# Altium integrated library TI Amplifiers and Linear Operational Amplifier High Speed.IntLib: 1100 symbols (part 7 of 44)
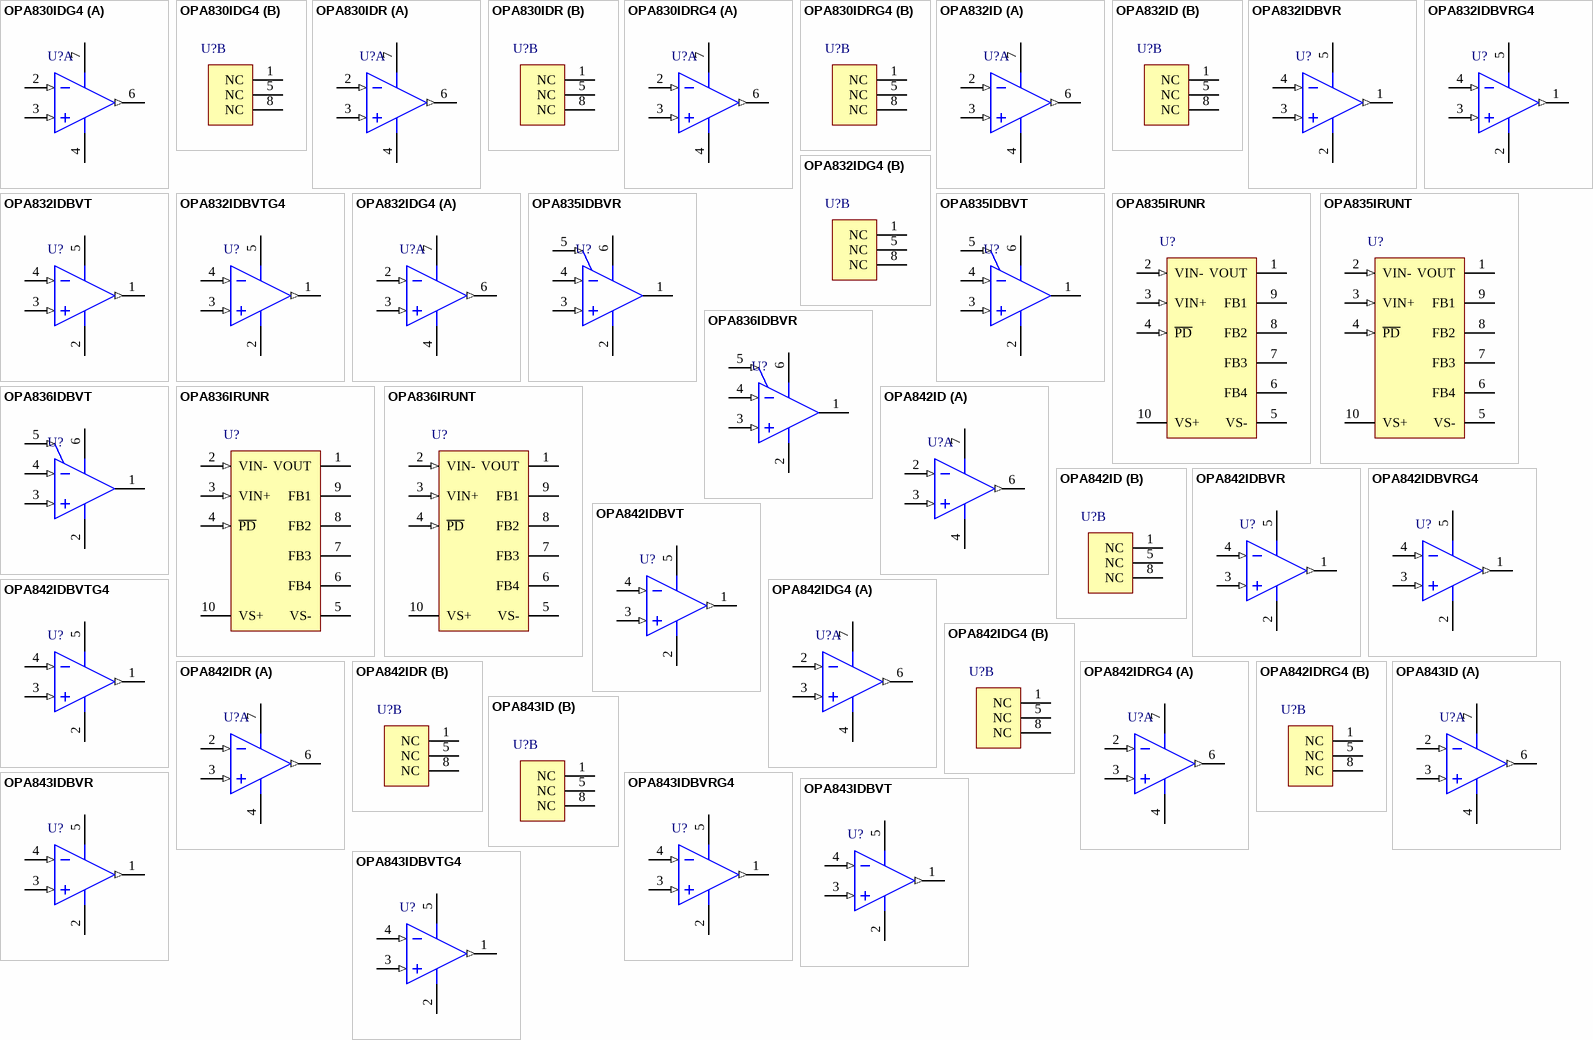
[diagram p57: symbols OPA830IDG4 to OPA843IDBVTG4]

## OPA832IDBVT
designator U?
Low-Power, Single-Supply, Fixed-Gain Video Buffer Amplifier, 2.8 to 11 V, -40 to 85 degC, 5-pin SOT23 (DBV5), Green (RoHS & no Sb/Br); Manufacturer: Texas Instruments; PartNumber: OPA832IDBVT; Acl, min stable gain(V/V): 1; BW @ Acl(MHz): 92; Iib(Max)(nA): 10; Io(Typ)(mA): 80; Rail-Rail: Out; Sub Family: High Output Current Amplifier (>=50mA), High Speed Amplifier (>=50MHz); Vio(Max)(mV): 5; Vn at Flatband(Typ)(nV/rtHz): 9.3; Vs(Max)(V): 11; Vs(Min)(V): 2.8; DatasheetVersion: SBOS266E; PackageVersion: 4073253-4/K, 03/2006; PackageReference: DBV5; PackageDescription: 5-Pin Plastic Small Outline, Body 1.6 x 2.9 mm, Pitch 0.95 mm; Supplier 1: Digi-Key; Supplier Part Number 1: 296-17326-2-ND; Supplier 2: Digi-Key; Supplier Part Number 2: 296-17326-1-ND; Supplier 3: Digi-Key; Supplier Part Number 3: 296-17326-6-ND; Supplier 4: Newark; Supplier Part Number 4: 43J9662; Supplier 5: Mouser; Supplier Part Number 5: 595-OPA832IDBVT; Eco-Plan: Green (RoHS & no Sb/Br); Number of Channels: 1; Mounting Technology: Surface Mount; Code_JEDEC: MO-178; ComponentLink1Description: Manufacturer URL; ComponentLink1URL: http://www.ti.com/; ComponentLink2Description: Datasheet; ComponentLink2URL: http://www.ti.com/general/docs/lit/getliterature.tsp?genericPartNumber=OPA832&fileType=pdf; ComponentLink3Description: Package Specification; ComponentLink3URL: http://www.ti.com/litv/pdf/mpds018i
footprint TI-DBV5_N (SOT23, 5-Leads, Body 2.9x1.6mm, Pitch 0.95mm, IPC Medium Density)
footprint TI-DBV5_L (SOT23, 5-Leads, Body 2.9x1.6mm, Pitch 0.95mm, IPC High Density)
footprint TI-DBV5_M (SOT23, 5-Leads, Body 2.9x1.6mm, Pitch 0.95mm, IPC Low Density)
pins: 1 OUT (out), 2 VS- (power), 3 IN+ (in), 4 IN- (in), 5 VS+ (power)

## OPA832IDBVTG4
designator U?
Low-Power, Single-Supply, Fixed-Gain Video Buffer Amplifier, 2.8 to 11 V, -40 to 85 degC, 5-pin SOT23 (DBV5), Green (RoHS & no Sb/Br); Manufacturer: Texas Instruments; PartNumber: OPA832IDBVTG4; Acl, min stable gain(V/V): 1; BW @ Acl(MHz): 92; Iib(Max)(nA): 10; Io(Typ)(mA): 80; Rail-Rail: Out; Sub Family: High Output Current Amplifier (>=50mA), High Speed Amplifier (>=50MHz); Vio(Max)(mV): 5; Vn at Flatband(Typ)(nV/rtHz): 9.3; Vs(Max)(V): 11; Vs(Min)(V): 2.8; DatasheetVersion: SBOS266E; PackageVersion: 4073253-4/K, 03/2006; PackageReference: DBV5; PackageDescription: 5-Pin Plastic Small Outline, Body 1.6 x 2.9 mm, Pitch 0.95 mm; Supplier 1: Digi-Key; Supplier Part Number 1: OPA832IDBVTG4-ND; Supplier 2: Newark; Supplier Part Number 2: 24K4702; Supplier 3: Mouser; Supplier Part Number 3: 595-OPA832IDBVTG4; Eco-Plan: Green (RoHS & no Sb/Br); Number of Channels: 1; Mounting Technology: Surface Mount; Code_JEDEC: MO-178; ComponentLink1Description: Manufacturer URL; ComponentLink1URL: http://www.ti.com/; ComponentLink2Description: Datasheet; ComponentLink2URL: http://www.ti.com/general/docs/lit/getliterature.tsp?genericPartNumber=OPA832&fileType=pdf; ComponentLink3Description: Package Specification; ComponentLink3URL: http://www.ti.com/litv/pdf/mpds018i
footprint TI-DBV5_N (SOT23, 5-Leads, Body 2.9x1.6mm, Pitch 0.95mm, IPC Medium Density)
footprint TI-DBV5_L (SOT23, 5-Leads, Body 2.9x1.6mm, Pitch 0.95mm, IPC High Density)
footprint TI-DBV5_M (SOT23, 5-Leads, Body 2.9x1.6mm, Pitch 0.95mm, IPC Low Density)
pins: 1 OUT (out), 2 VS- (power), 3 IN+ (in), 4 IN- (in), 5 VS+ (power)

## OPA832IDG4
designator U?
Low-Power, Single-Supply, Fixed-Gain Video Buffer Amplifier, 2.8 to 11 V, -40 to 85 degC, 8-pin SOIC (D8), Green (RoHS & no Sb/Br); Manufacturer: Texas Instruments; PartNumber: OPA832IDG4; 2nd Harmonic(dBc): 66; 3rd Harmonic(dBc): 73; Acl, min stable gain(V/V): 1; BW @ Acl(MHz): 92; Diff Gain(%): 0.10; Diff Phase(deg): 0.16; Iib(Max)(nA): 13000; Io(Typ)(mA): 80; Settling Time (0.1%)(Typ)(ns): 45; Slew Rate(Typ)(V/us): 350; Sub Family: High Output Current Amplifier (>=50mA), High Speed Amplifier (>=50MHz); Vio(Max)(mV): 8.5; Vn at Flatband(Typ)(nV/rtHz): 9.3; Vs(Max)(V): 11; Vs(Min)(V): 2.8; DatasheetVersion: SBOS266E; PackageVersion: 4040047-3/M, 06/2011; PackageReference: D8; PackageDescription: 8-Pin Plastic Small Outline, Body 4.9 x 3.9 mm, Pitch 1.27 mm; Supplier 1: Digi-Key; Supplier Part Number 1: OPA832IDG4-ND; Supplier 2: Newark; Supplier Part Number 2: 06M7545; Supplier 3: Mouser; Supplier Part Number 3: 595-OPA832IDG4; Eco-Plan: Green (RoHS & no Sb/Br); Number of Channels: 1; Mounting Technology: Surface Mount; Code_JEDEC: MS-012; ComponentLink1Description: Manufacturer URL; ComponentLink1URL: http://www.ti.com/; ComponentLink2Description: Datasheet; ComponentLink2URL: http://www.ti.com/general/docs/lit/getliterature.tsp?genericPartNumber=OPA832&fileType=pdf; ComponentLink3Description: Package Specification; ComponentLink3URL: http://www.ti.com/litv/pdf/msoi002j
footprint TI-D8_N (SOIC, 8-Leads, Body 4.9x3.9mm, Pitch 1.27mm, IPC Medium Density)
footprint TI-D8_L (SOIC, 8-Leads, Body 4.9x3.9mm, Pitch 1.27mm, IPC High Density)
footprint TI-D8_M (SOIC, 8-Leads, Body 4.9x3.9mm, Pitch 1.27mm, IPC Low Density)
part A pins: 2 IN- (in), 3 IN+ (in), 4 VS- (power), 6 OUT (out), 7 VS+ (power)
part B pins: 1 NC, 5 NC, 8 NC

## OPA835IDBVR
designator U?
Ultra Low Power, Rail-to-Rail Out, Negative Rail In, VFB Amplifier, 2.5 to 5.5 V, -40 to 125 degC, 6-pin SOT23 (DBV6), Green (RoHS & no Sb/Br); Manufacturer: Texas Instruments; PartNumber: OPA835IDBVR; 2nd Harmonic(dBc): 70; 3rd Harmonic(dBc): 73; @ MHz: 1; BW @ Acl(MHz): 56; Iib(Max)(nA): 400; Io(Typ)(mA): 40; Iq per channel(Max)(mA): 0.25; Settling Time (0.1%)(Typ)(ns): 55; Slew Rate(Typ)(V/us): 160; Sub Family: Audio Operational Amplifier, High Speed Amplifier (>=50MHz), Low Noise Amp (<=10nV/rtHz), Low Offset Voltage Amplifier (<=500uV), Low Power Amp (<=500uA), Low Supply Voltage Amplifier (<=2.7V); Vio(Max)(mV): 0.5; Vn at Flatband(Typ)(nV/rtHz): 9.3; Vs(Max)(V): 5.5; Vs(Min)(V): 2.5; DatasheetVersion: SLOS713D; PackageVersion: 4073253-5/K, 03/2006; PackageReference: DBV6; PackageDescription: 6-Pin Plastic Small Outline, Body 1.6 x 2.9 mm, Pitch 0.95 mm; Supplier 1: Digi-Key; Supplier Part Number 1: OPA835IDBVR-ND; Supplier 2: Newark; Supplier Part Number 2: 48T4384; Supplier 3: Mouser; Supplier Part Number 3: 595-OPA835IDBVR; Acl, min stable gain(V/V): 1; Eco-Plan: Green (RoHS & no Sb/Br); Number of Channels: 1; Mounting Technology: Surface Mount; Code_JEDEC: MO-178; ComponentLink1Description: Manufacturer URL; ComponentLink1URL: http://www.ti.com/; ComponentLink2Description: Datasheet; ComponentLink2URL: http://www.ti.com/general/docs/lit/getliterature.tsp?genericPartNumber=OPA835&fileType=pdf; ComponentLink3Description: Package Specification; ComponentLink3URL: http://www.ti.com/litv/pdf/mpds026h
footprint TI-DBV6_N (SOT23, 6-Leads, Body 2.9x1.6mm, Pitch 0.95mm, IPC Medium Density)
footprint TI-DBV6_L (SOT23, 6-Leads, Body 2.9x1.6mm, Pitch 0.95mm, IPC High Density)
footprint TI-DBV6_M (SOT23, 6-Leads, Body 2.9x1.6mm, Pitch 0.95mm, IPC Low Density)
pins: 1 VOUT (hiz) "Amplifier output", 2 VS- (power) "Negative power supply input", 3 VIN+ (in) "Amplifier non-inverting input", 4 VIN- (in) "Amplifier inverting input", 5 ~{PD} (in) "Amplifier Power Down, low = low power mode, high = normal operation (PIN MUST BE DRIVEN)", 6 VS+ (power) "Positive power supply input"

## OPA835IDBVT
designator U?
Ultra Low Power, Rail-to-Rail Out, Negative Rail In, VFB Amplifier, 2.5 to 5.5 V, -40 to 125 degC, 6-pin SOT23 (DBV6), Green (RoHS & no Sb/Br); Manufacturer: Texas Instruments; PartNumber: OPA835IDBVT; 2nd Harmonic(dBc): 70; 3rd Harmonic(dBc): 73; @ MHz: 1; BW @ Acl(MHz): 56; Iib(Max)(nA): 400; Io(Typ)(mA): 40; Iq per channel(Max)(mA): 0.25; Settling Time (0.1%)(Typ)(ns): 55; Slew Rate(Typ)(V/us): 160; Sub Family: Audio Operational Amplifier, High Speed Amplifier (>=50MHz), Low Noise Amp (<=10nV/rtHz), Low Offset Voltage Amplifier (<=500uV), Low Power Amp (<=500uA), Low Supply Voltage Amplifier (<=2.7V); Vio(Max)(mV): 0.5; Vn at Flatband(Typ)(nV/rtHz): 9.3; Vs(Max)(V): 5.5; Vs(Min)(V): 2.5; DatasheetVersion: SLOS713D; PackageVersion: 4073253-5/K, 03/2006; PackageReference: DBV6; PackageDescription: 6-Pin Plastic Small Outline, Body 1.6 x 2.9 mm, Pitch 0.95 mm; Supplier 1: Digi-Key; Supplier Part Number 1: 296-28770-2-ND; Supplier 2: Digi-Key; Supplier Part Number 2: 296-28770-1-ND; Supplier 3: Digi-Key; Supplier Part Number 3: 296-28770-6-ND; Supplier 4: Farnell; Supplier Part Number 4: 1903635; Supplier 5: Newark; Supplier Part Number 5: 48T0415; Supplier 6: Newark; Supplier Part Number 6: 51T4346; Supplier 7: Mouser; Supplier Part Number 7: 595-OPA835IDBVT; Acl, min stable gain(V/V): 1; Eco-Plan: Green (RoHS & no Sb/Br); Number of Channels: 1; Mounting Technology: Surface Mount; Code_JEDEC: MO-178; ComponentLink1Description: Manufacturer URL; ComponentLink1URL: http://www.ti.com/; ComponentLink2Description: Datasheet; ComponentLink2URL: http://www.ti.com/general/docs/lit/getliterature.tsp?genericPartNumber=OPA835&fileType=pdf; ComponentLink3Description: Package Specification; ComponentLink3URL: http://www.ti.com/litv/pdf/mpds026h
footprint TI-DBV6_N (SOT23, 6-Leads, Body 2.9x1.6mm, Pitch 0.95mm, IPC Medium Density)
footprint TI-DBV6_L (SOT23, 6-Leads, Body 2.9x1.6mm, Pitch 0.95mm, IPC High Density)
footprint TI-DBV6_M (SOT23, 6-Leads, Body 2.9x1.6mm, Pitch 0.95mm, IPC Low Density)
pins: 1 VOUT (hiz) "Amplifier output", 2 VS- (power) "Negative power supply input", 3 VIN+ (in) "Amplifier non-inverting input", 4 VIN- (in) "Amplifier inverting input", 5 ~{PD} (in) "Amplifier Power Down, low = low power mode, high = normal operation (PIN MUST BE DRIVEN)", 6 VS+ (power) "Positive power supply input"

## OPA835IRUNR
designator U?
Ultra Low Power, Rail-to-Rail Out, Negative Rail In, VFB Amplifier, 2.5 to 5.5 V, -40 to 125 degC, 10-pin QFN (RUN10), Green (RoHS & no Sb/Br); Manufacturer: Texas Instruments; PartNumber: OPA835IRUNR; 2nd Harmonic(dBc): 70; 3rd Harmonic(dBc): 73; @ MHz: 1; BW @ Acl(MHz): 56; Iib(Max)(nA): 400; Io(Typ)(mA): 40; Iq per channel(Max)(mA): 0.25; Settling Time (0.1%)(Typ)(ns): 55; Slew Rate(Typ)(V/us): 160; Sub Family: Audio Operational Amplifier, High Speed Amplifier (>=50MHz), Low Noise Amp (<=10nV/rtHz), Low Offset Voltage Amplifier (<=500uV), Low Power Amp (<=500uA), Low Supply Voltage Amplifier (<=2.7V); Vio(Max)(mV): 0.5; Vn at Flatband(Typ)(nV/rtHz): 9.3; Vs(Max)(V): 5.5; Vs(Min)(V): 2.5; DatasheetVersion: SLOS713D; PackageVersion: 4209107/B, 11/2010; PackageReference: RUN10; PackageDescription: 10-Pin Plastic Quad Flatpack No-Lead, Body 2 x 2 mm, Pitch 0.5 mm; Supplier 1: Digi-Key; Supplier Part Number 1: 296-29814-2-ND; Supplier 2: Digi-Key; Supplier Part Number 2: 296-29814-1-ND; Supplier 3: Digi-Key; Supplier Part Number 3: 296-29814-6-ND; Supplier 4: Mouser; Supplier Part Number 4: 595-OPA835IRUNR; Acl, min stable gain(V/V): 1; Eco-Plan: Green (RoHS & no Sb/Br); Number of Channels: 1; Mounting Technology: Surface Mount; ComponentLink1Description: Manufacturer URL; ComponentLink1URL: http://www.ti.com/; ComponentLink2Description: Datasheet; ComponentLink2URL: http://www.ti.com/general/docs/lit/getliterature.tsp?genericPartNumber=OPA835&fileType=pdf; ComponentLink3Description: Package Specification; ComponentLink3URL: http://www.ti.com/lit/ml/mpqf225a/mpqf225a.pdf
footprint TI-RUN10_V (QFN, 10-Leads, Body 2x2mm, Pitch 0.5mm, TI Recommended)
pins: 1 VOUT (hiz), 2 VIN- (in), 3 VIN+ (in), 4 ~{PD} (in), 5 VS- (power), 6 FB4, 7 FB3, 8 FB2, 9 FB1, 10 VS+ (power)

## OPA835IRUNT
designator U?
Ultra Low Power, Rail-to-Rail Out, Negative Rail In, VFB Amplifier, 2.5 to 5.5 V, -40 to 125 degC, 10-pin QFN (RUN10), Green (RoHS & no Sb/Br); Manufacturer: Texas Instruments; PartNumber: OPA835IRUNT; 2nd Harmonic(dBc): 70; 3rd Harmonic(dBc): 73; BW @ Acl(MHz): 56; Iib(Max)(nA): 400; Io(Typ)(mA): 40; Iq per channel(Max)(mA): 0.365; Number of Channels: 1; Settling Time (0.1%)(Typ)(ns): 55; Slew Rate(Typ)(V/us): 160; Sub Family: Audio Operational Amplifier, High Speed Amplifier (>=50MHz), Low Noise Amp (<=10nV/rtHz), Low Offset Voltage Amplifier (<=500uV), Low Power Amp (<=500uA), Low Supply Voltage Amplifier (<=2.7V); THD (Fc is 1 MHz)(Typ)(dB): -130; Vio(Max)(mV): 0.5; Vn at Flatband(Typ)(nV/rtHz): 9.3; Vs(Max)(V): 5.5; Vs(Min)(V): 2.5; DatasheetVersion: SLOS713D; PackageVersion: 4209107/B, 11/2010; PackageReference: RUN10; PackageDescription: 10-Pin Plastic Quad Flatpack No-Lead, Body 2 x 2 mm, Pitch 0.5 mm; Supplier 1: Digi-Key; Supplier Part Number 1: 296-32198-2-ND; Supplier 2: Digi-Key; Supplier Part Number 2: 296-32198-1-ND; Supplier 3: Digi-Key; Supplier Part Number 3: 296-32198-6-ND; Supplier 4: Mouser; Supplier Part Number 4: 595-OPA835IRUNT; Eco-Plan: Green (RoHS & no Sb/Br); Mounting Technology: Surface Mount; ComponentLink1Description: Manufacturer URL; ComponentLink1URL: http://www.ti.com/; ComponentLink2Description: Datasheet; ComponentLink2URL: http://www.ti.com/general/docs/lit/getliterature.tsp?genericPartNumber=OPA835&fileType=pdf; ComponentLink3Description: Package Specification; ComponentLink3URL: http://www.ti.com/lit/ml/mpqf225a/mpqf225a.pdf
footprint TI-RUN10_V (QFN, 10-Leads, Body 2x2mm, Pitch 0.5mm, TI Recommended)
pins: 1 VOUT (hiz), 2 VIN- (in), 3 VIN+ (in), 4 ~{PD} (in), 5 VS- (power), 6 FB4, 7 FB3, 8 FB2, 9 FB1, 10 VS+ (power)

## OPA836IDBVR
designator U?
Very Low Power, Rail to Rail Out, Negative Rail In, VFB Operational Amplifier, 2.5 to 5.5 V, -40 to 125 degC, 6-pin SOT23 (DBV6), Green (RoHS & no Sb/Br); Manufacturer: Texas Instruments; PartNumber: OPA836IDBVR; 2nd Harmonic(dBc): 85; 3rd Harmonic(dBc): 105; @ MHz: 1; BW @ Acl(MHz): 205; Iib(Max)(nA): 1000; Io(Typ)(mA): 50; Settling Time (0.1%)(Typ)(ns): 30; Slew Rate(Typ)(V/us): 560; Sub Family: Audio Operational Amplifier, High Output Current Amplifier (>=50mA), High Speed Amplifier (>=50MHz), Low Noise Amp (<=10nV/rtHz), Low Offset Voltage Amplifier (<=500uV), Low Supply Voltage Amplifier (<=2.7V); Vio(Max)(mV): 0.4; Vn at Flatband(Typ)(nV/rtHz): 4.6; Vs(Max)(V): 5.5; Vs(Min)(V): 2.5; DatasheetVersion: SLOS712D; PackageVersion: 4073253-5/K, 03/2006; PackageReference: DBV6; PackageDescription: 6-Pin Plastic Small Outline, Body 1.6 x 2.9 mm, Pitch 0.95 mm; Supplier 1: Digi-Key; Supplier Part Number 1: OPA836IDBVR-ND; Supplier 2: Mouser; Supplier Part Number 2: 595-OPA836IDBVR; Acl, min stable gain(V/V): 1; Eco-Plan: Green (RoHS & no Sb/Br); Iq per channel(Max)(mA): 1; Number of Channels: 1; Mounting Technology: Surface Mount; Code_JEDEC: MO-178; ComponentLink1Description: Manufacturer URL; ComponentLink1URL: http://www.ti.com/; ComponentLink2Description: Datasheet; ComponentLink2URL: http://www.ti.com/general/docs/lit/getliterature.tsp?genericPartNumber=OPA836&fileType=pdf; ComponentLink3Description: Package Specification; ComponentLink3URL: http://www.ti.com/litv/pdf/mpds026h
footprint TI-DBV6_N (SOT23, 6-Leads, Body 2.9x1.6mm, Pitch 0.95mm, IPC Medium Density)
footprint TI-DBV6_L (SOT23, 6-Leads, Body 2.9x1.6mm, Pitch 0.95mm, IPC High Density)
footprint TI-DBV6_M (SOT23, 6-Leads, Body 2.9x1.6mm, Pitch 0.95mm, IPC Low Density)
pins: 1 VOUT (hiz) "Amplifier output", 2 VS- (power) "Negative power supply input", 3 VIN+ (in) "Amplifier non-inverting input", 4 VIN- (in) "Amplifier inverting input", 5 ~{PD} (in) "Amplifier Power Down, low = low power mode, high = normal operation (PIN MUST BE DRIVEN)", 6 VS+ (power) "Positive power supply input"

## OPA836IDBVT
designator U?
Very Low Power, Rail to Rail Out, Negative Rail In, VFB Operational Amplifier, 2.5 to 5.5 V, -40 to 125 degC, 6-pin SOT23 (DBV6), Green (RoHS & no Sb/Br); Manufacturer: Texas Instruments; PartNumber: OPA836IDBVT; 2nd Harmonic(dBc): 85; 3rd Harmonic(dBc): 105; @ MHz: 1; BW @ Acl(MHz): 205; Iib(Max)(nA): 1000; Io(Typ)(mA): 50; Settling Time (0.1%)(Typ)(ns): 30; Slew Rate(Typ)(V/us): 560; Sub Family: Audio Operational Amplifier, High Output Current Amplifier (>=50mA), High Speed Amplifier (>=50MHz), Low Noise Amp (<=10nV/rtHz), Low Offset Voltage Amplifier (<=500uV), Low Supply Voltage Amplifier (<=2.7V); Vio(Max)(mV): 0.4; Vn at Flatband(Typ)(nV/rtHz): 4.6; Vs(Max)(V): 5.5; Vs(Min)(V): 2.5; DatasheetVersion: SLOS712D; PackageVersion: 4073253-5/K, 03/2006; PackageReference: DBV6; PackageDescription: 6-Pin Plastic Small Outline, Body 1.6 x 2.9 mm, Pitch 0.95 mm; Supplier 1: Digi-Key; Supplier Part Number 1: 296-28761-2-ND; Supplier 2: Digi-Key; Supplier Part Number 2: 296-28761-1-ND; Supplier 3: Digi-Key; Supplier Part Number 3: 296-28761-6-ND; Supplier 4: Farnell; Supplier Part Number 4: 1903636; Supplier 5: Newark; Supplier Part Number 5: 47T4463; Supplier 6: Newark; Supplier Part Number 6: 55T3611; Supplier 7: Mouser; Supplier Part Number 7: 595-OPA836IDBVT; Acl, min stable gain(V/V): 1; Eco-Plan: Green (RoHS & no Sb/Br); Iq per channel(Max)(mA): 1; Number of Channels: 1; Mounting Technology: Surface Mount; Code_JEDEC: MO-178; ComponentLink1Description: Manufacturer URL; ComponentLink1URL: http://www.ti.com/; ComponentLink2Description: Datasheet; ComponentLink2URL: http://www.ti.com/general/docs/lit/getliterature.tsp?genericPartNumber=OPA836&fileType=pdf; ComponentLink3Description: Package Specification; ComponentLink3URL: http://www.ti.com/litv/pdf/mpds026h
footprint TI-DBV6_N (SOT23, 6-Leads, Body 2.9x1.6mm, Pitch 0.95mm, IPC Medium Density)
footprint TI-DBV6_L (SOT23, 6-Leads, Body 2.9x1.6mm, Pitch 0.95mm, IPC High Density)
footprint TI-DBV6_M (SOT23, 6-Leads, Body 2.9x1.6mm, Pitch 0.95mm, IPC Low Density)
pins: 1 VOUT (hiz) "Amplifier output", 2 VS- (power) "Negative power supply input", 3 VIN+ (in) "Amplifier non-inverting input", 4 VIN- (in) "Amplifier inverting input", 5 ~{PD} (in) "Amplifier Power Down, low = low power mode, high = normal operation (PIN MUST BE DRIVEN)", 6 VS+ (power) "Positive power supply input"

## OPA836IRUNR
designator U?
Very Low Power, Rail to Rail Out, Negative Rail In, VFB Operational Amplifier, 2.5 to 5.5 V, -40 to 125 degC, 10-pin QFN (RUN10), Green (RoHS & no Sb/Br); Manufacturer: Texas Instruments; PartNumber: OPA836IRUNR; 2nd Harmonic(dBc): 85; 3rd Harmonic(dBc): 105; @ MHz: 1; BW @ Acl(MHz): 205; Iib(Max)(nA): 1000; Io(Typ)(mA): 50; Settling Time (0.1%)(Typ)(ns): 30; Slew Rate(Typ)(V/us): 560; Sub Family: Audio Operational Amplifier, High Output Current Amplifier (>=50mA), High Speed Amplifier (>=50MHz), Low Noise Amp (<=10nV/rtHz), Low Offset Voltage Amplifier (<=500uV), Low Supply Voltage Amplifier (<=2.7V); Vio(Max)(mV): 0.4; Vn at Flatband(Typ)(nV/rtHz): 4.6; Vs(Max)(V): 5.5; Vs(Min)(V): 2.5; DatasheetVersion: SLOS712D; PackageVersion: 4209107/B, 11/2010; PackageReference: RUN10; PackageDescription: 10-Pin Plastic Quad Flatpack No-Lead, Body 2 x 2 mm, Pitch 0.5 mm; Supplier 1: Digi-Key; Supplier Part Number 1: 296-29815-2-ND; Supplier 2: Digi-Key; Supplier Part Number 2: 296-29815-1-ND; Supplier 3: Digi-Key; Supplier Part Number 3: 296-29815-6-ND; Supplier 4: Mouser; Supplier Part Number 4: 595-OPA836IRUNR; Acl, min stable gain(V/V): 1; Eco-Plan: Green (RoHS & no Sb/Br); Iq per channel(Max)(mA): 1; Number of Channels: 1; Mounting Technology: Surface Mount; ComponentLink1Description: Manufacturer URL; ComponentLink1URL: http://www.ti.com/; ComponentLink2Description: Datasheet; ComponentLink2URL: http://www.ti.com/general/docs/lit/getliterature.tsp?genericPartNumber=OPA836&fileType=pdf; ComponentLink3Description: Package Specification; ComponentLink3URL: http://www.ti.com/lit/ml/mpqf225a/mpqf225a.pdf
footprint TI-RUN10_V (QFN, 10-Leads, Body 2x2mm, Pitch 0.5mm, TI Recommended)
pins: 1 VOUT (hiz), 2 VIN- (in), 3 VIN+ (in), 4 ~{PD} (in), 5 VS- (power), 6 FB4, 7 FB3, 8 FB2, 9 FB1, 10 VS+ (power)

## OPA836IRUNT
designator U?
Very Low Power, Rail to Rail Out, Negative Rail In, VFB Operational Amplifier, 2.5 to 5.5 V, -40 to 125 degC, 10-pin QFN (RUN10), Green (RoHS & no Sb/Br); Manufacturer: Texas Instruments; PartNumber: OPA836IRUNT; 2nd Harmonic(dBc): 85; 3rd Harmonic(dBc): 105; @ MHz: 1; BW @ Acl(MHz): 205; Iib(Max)(nA): 1850; Io(Typ)(mA): 50; Settling Time (0.1%)(Typ)(ns): 30; Slew Rate(Typ)(V/us): 560; Sub Family: Audio Operational Amplifier, High Output Current Amplifier (>=50mA), High Speed Amplifier (>=50MHz), Low Noise Amp (<=10nV/rtHz), Low Offset Voltage Amplifier (<=500uV), Low Supply Voltage Amplifier (<=2.7V); THD (Fc is 1 MHz)(Typ)(dB): -130; Vio(Max)(mV): 0.4; Vn at Flatband(Typ)(nV/rtHz): 4.6; Vs(Max)(V): 5.5; Vs(Min)(V): 2.5; DatasheetVersion: SLOS712D; PackageVersion: 4209107/B, 11/2010; PackageReference: RUN10; PackageDescription: 10-Pin Plastic Quad Flatpack No-Lead, Body 2 x 2 mm, Pitch 0.5 mm; Supplier 1: Digi-Key; Supplier Part Number 1: 296-32199-2-ND; Supplier 2: Digi-Key; Supplier Part Number 2: 296-32199-1-ND; Supplier 3: Digi-Key; Supplier Part Number 3: 296-32199-6-ND; Supplier 4: Mouser; Supplier Part Number 4: 595-OPA836IRUNT; Acl, min stable gain(V/V): 1; Eco-Plan: Green (RoHS & no Sb/Br); Iq per channel(Max)(mA): 1; Number of Channels: 1; Rail-Rail: Out; Mounting Technology: Surface Mount; ComponentLink1Description: Manufacturer URL; ComponentLink1URL: http://www.ti.com/; ComponentLink2Description: Datasheet; ComponentLink2URL: http://www.ti.com/general/docs/lit/getliterature.tsp?genericPartNumber=OPA836&fileType=pdf; ComponentLink3Description: Package Specification; ComponentLink3URL: http://www.ti.com/lit/ml/mpqf225a/mpqf225a.pdf
footprint TI-RUN10_V (QFN, 10-Leads, Body 2x2mm, Pitch 0.5mm, TI Recommended)
pins: 1 VOUT (hiz), 2 VIN- (in), 3 VIN+ (in), 4 ~{PD} (in), 5 VS- (power), 6 FB4, 7 FB3, 8 FB2, 9 FB1, 10 VS+ (power)

## OPA842ID
designator U?
Wideband, Low Distortion, Unity Gain Stable, Voltage Feedback Operational Amplifier, 7 to 12 V, -40 to 85 degC, 8-pin SOIC (D8), Green (RoHS & no Sb/Br); Manufacturer: Texas Instruments; PartNumber: OPA842ID; 2nd Harmonic(dBc): 94; 3rd Harmonic(dBc): 93; @ MHz: 5; Acl, min stable gain(V/V): 1; BW @ Acl(MHz): 400; Diff Gain(%): 0.003; Diff Phase(deg): 0.008; Iib(Max)(nA): 37000; Io(Typ)(mA): 100; Iq per channel(Max)(mA): 22.5; Settling Time (0.1%)(Typ)(ns): 15; Sub Family: High Output Current Amplifier (>=50mA), High Speed Amplifier (>=50MHz); THD (Fc is 1 MHz)(Typ)(dB): -100; Vio(Max)(mV): 1.2; Vn at Flatband(Typ)(nV/rtHz): 2.7; Vs(Max)(V): 12; Vs(Min)(V): 7; DatasheetVersion: SBOS267D; PackageVersion: 4040047-3/M, 06/2011; PackageReference: D8; PackageDescription: 8-Pin Plastic Small Outline, Body 4.9 x 3.9 mm, Pitch 1.27 mm; Supplier 1: Digi-Key; Supplier Part Number 1: 296-14175-5-ND; Supplier 2: Farnell; Supplier Part Number 2: 1212330; Supplier 3: Newark; Supplier Part Number 3: 01M8439; Supplier 4: Newark; Supplier Part Number 4: 21H3994; Supplier 5: Mouser; Supplier Part Number 5: 595-OPA842ID; Eco-Plan: Green (RoHS & no Sb/Br); Number of Channels: 1; Slew Rate(Typ)(V/us): 400; Mounting Technology: Surface Mount; Code_JEDEC: MS-012; ComponentLink1Description: Manufacturer URL; ComponentLink1URL: http://www.ti.com/; ComponentLink2Description: Datasheet; ComponentLink2URL: http://www.ti.com/general/docs/lit/getliterature.tsp?genericPartNumber=OPA842&fileType=pdf; ComponentLink3Description: Package Specification; ComponentLink3URL: http://www.ti.com/litv/pdf/msoi002j
footprint TI-D8_N (SOIC, 8-Leads, Body 4.9x3.9mm, Pitch 1.27mm, IPC Medium Density)
footprint TI-D8_L (SOIC, 8-Leads, Body 4.9x3.9mm, Pitch 1.27mm, IPC High Density)
footprint TI-D8_M (SOIC, 8-Leads, Body 4.9x3.9mm, Pitch 1.27mm, IPC Low Density)
part A pins: 2 IN- (in), 3 IN+ (in), 4 VS- (power), 6 OUT (out), 7 VS+ (power)
part B pins: 1 NC, 5 NC, 8 NC

## OPA842IDBVR
designator U?
Wideband, Low Distortion, Unity Gain Stable, Voltage Feedback Operational Amplifier, 7 to 12 V, -40 to 85 degC, 5-pin SOT23 (DBV5), Green (RoHS & no Sb/Br); Manufacturer: Texas Instruments; PartNumber: OPA842IDBVR; 2nd Harmonic(dBc): 94; 3rd Harmonic(dBc): 93; @ MHz: 5; Acl, min stable gain(V/V): 1; BW @ Acl(MHz): 400; Diff Gain(%): 0.003; Diff Phase(deg): 0.008; Iib(Max)(nA): 37000; Io(Typ)(mA): 100; Iq per channel(Max)(mA): 22.5; Settling Time (0.1%)(Typ)(ns): 15; Sub Family: High Output Current Amplifier (>=50mA), High Speed Amplifier (>=50MHz); THD (Fc is 1 MHz)(Typ)(dB): -100; Vio(Max)(mV): 1.2; Vn at Flatband(Typ)(nV/rtHz): 2.7; Vs(Max)(V): 12; Vs(Min)(V): 7; DatasheetVersion: SBOS267D; PackageVersion: 4073253-4/K, 03/2006; PackageReference: DBV5; PackageDescription: 5-Pin Plastic Small Outline, Body 1.6 x 2.9 mm, Pitch 0.95 mm; Supplier 1: Digi-Key; Supplier Part Number 1: OPA842IDBVR-ND; Supplier 2: Mouser; Supplier Part Number 2: 595-OPA842IDBVR; Eco-Plan: Green (RoHS & no Sb/Br); Number of Channels: 1; Slew Rate(Typ)(V/us): 400; Mounting Technology: Surface Mount; Code_JEDEC: MO-178; ComponentLink1Description: Manufacturer URL; ComponentLink1URL: http://www.ti.com/; ComponentLink2Description: Datasheet; ComponentLink2URL: http://www.ti.com/general/docs/lit/getliterature.tsp?genericPartNumber=OPA842&fileType=pdf; ComponentLink3Description: Package Specification; ComponentLink3URL: http://www.ti.com/litv/pdf/mpds018i
footprint TI-DBV5_N (SOT23, 5-Leads, Body 2.9x1.6mm, Pitch 0.95mm, IPC Medium Density)
footprint TI-DBV5_L (SOT23, 5-Leads, Body 2.9x1.6mm, Pitch 0.95mm, IPC High Density)
footprint TI-DBV5_M (SOT23, 5-Leads, Body 2.9x1.6mm, Pitch 0.95mm, IPC Low Density)
pins: 1 OUT (out), 2 VS- (power), 3 IN+ (in), 4 IN- (in), 5 VS+ (power)

## OPA842IDBVRG4
designator U?
Wideband, Low Distortion, Unity Gain Stable, Voltage Feedback Operational Amplifier, 7 to 12 V, -40 to 85 degC, 5-pin SOT23 (DBV5), Green (RoHS & no Sb/Br); Manufacturer: Texas Instruments; PartNumber: OPA842IDBVRG4; 2nd Harmonic(dBc): 94; 3rd Harmonic(dBc): 93; @ MHz: 5; Acl, min stable gain(V/V): 1; BW @ Acl(MHz): 400; Diff Gain(%): 0.003; Diff Phase(deg): 0.008; Iib(Max)(nA): 37000; Io(Typ)(mA): 100; Iq per channel(Max)(mA): 22.5; Settling Time (0.1%)(Typ)(ns): 15; Sub Family: High Output Current Amplifier (>=50mA), High Speed Amplifier (>=50MHz); THD (Fc is 1 MHz)(Typ)(dB): -100; Vio(Max)(mV): 1.2; Vn at Flatband(Typ)(nV/rtHz): 2.7; Vs(Max)(V): 12; Vs(Min)(V): 7; DatasheetVersion: SBOS267D; PackageVersion: 4073253-4/K, 03/2006; PackageReference: DBV5; PackageDescription: 5-Pin Plastic Small Outline, Body 1.6 x 2.9 mm, Pitch 0.95 mm; Supplier 1: Digi-Key; Supplier Part Number 1: OPA842IDBVRG4-ND; Supplier 2: Mouser; Supplier Part Number 2: 595-OPA842IDBVRG4; Eco-Plan: Green (RoHS & no Sb/Br); Number of Channels: 1; Slew Rate(Typ)(V/us): 400; Mounting Technology: Surface Mount; Code_JEDEC: MO-178; ComponentLink1Description: Manufacturer URL; ComponentLink1URL: http://www.ti.com/; ComponentLink2Description: Datasheet; ComponentLink2URL: http://www.ti.com/general/docs/lit/getliterature.tsp?genericPartNumber=OPA842&fileType=pdf; ComponentLink3Description: Package Specification; ComponentLink3URL: http://www.ti.com/litv/pdf/mpds018i
footprint TI-DBV5_N (SOT23, 5-Leads, Body 2.9x1.6mm, Pitch 0.95mm, IPC Medium Density)
footprint TI-DBV5_L (SOT23, 5-Leads, Body 2.9x1.6mm, Pitch 0.95mm, IPC High Density)
footprint TI-DBV5_M (SOT23, 5-Leads, Body 2.9x1.6mm, Pitch 0.95mm, IPC Low Density)
pins: 1 OUT (out), 2 VS- (power), 3 IN+ (in), 4 IN- (in), 5 VS+ (power)

## OPA842IDBVT
designator U?
Wideband, Low Distortion, Unity Gain Stable, Voltage Feedback Operational Amplifier, 7 to 12 V, -40 to 85 degC, 5-pin SOT23 (DBV5), Green (RoHS & no Sb/Br); Manufacturer: Texas Instruments; PartNumber: OPA842IDBVT; 2nd Harmonic(dBc): 94; 3rd Harmonic(dBc): 93; @ MHz: 5; Acl, min stable gain(V/V): 1; BW @ Acl(MHz): 400; Diff Gain(%): 0.003; Diff Phase(deg): 0.008; Iib(Max)(nA): 37000; Io(Typ)(mA): 100; Iq per channel(Max)(mA): 22.5; Settling Time (0.1%)(Typ)(ns): 15; Sub Family: High Output Current Amplifier (>=50mA), High Speed Amplifier (>=50MHz); THD (Fc is 1 MHz)(Typ)(dB): -100; Vio(Max)(mV): 1.2; Vn at Flatband(Typ)(nV/rtHz): 2.7; Vs(Max)(V): 12; Vs(Min)(V): 7; DatasheetVersion: SBOS267D; PackageVersion: 4073253-4/K, 03/2006; PackageReference: DBV5; PackageDescription: 5-Pin Plastic Small Outline, Body 1.6 x 2.9 mm, Pitch 0.95 mm; Supplier 1: Digi-Key; Supplier Part Number 1: 296-14176-2-ND; Supplier 2: Digi-Key; Supplier Part Number 2: 296-14176-1-ND; Supplier 3: Digi-Key; Supplier Part Number 3: 296-14176-6-ND; Supplier 4: Farnell; Supplier Part Number 4: 8434298; Supplier 5: Newark; Supplier Part Number 5: 21H3996; Supplier 6: Mouser; Supplier Part Number 6: 595-OPA842IDBVT; Eco-Plan: Green (RoHS & no Sb/Br); Number of Channels: 1; Slew Rate(Typ)(V/us): 400; Mounting Technology: Surface Mount; Code_JEDEC: MO-178; ComponentLink1Description: Manufacturer URL; ComponentLink1URL: http://www.ti.com/; ComponentLink2Description: Datasheet; ComponentLink2URL: http://www.ti.com/general/docs/lit/getliterature.tsp?genericPartNumber=OPA842&fileType=pdf; ComponentLink3Description: Package Specification; ComponentLink3URL: http://www.ti.com/litv/pdf/mpds018i
footprint TI-DBV5_N (SOT23, 5-Leads, Body 2.9x1.6mm, Pitch 0.95mm, IPC Medium Density)
footprint TI-DBV5_L (SOT23, 5-Leads, Body 2.9x1.6mm, Pitch 0.95mm, IPC High Density)
footprint TI-DBV5_M (SOT23, 5-Leads, Body 2.9x1.6mm, Pitch 0.95mm, IPC Low Density)
pins: 1 OUT (out), 2 VS- (power), 3 IN+ (in), 4 IN- (in), 5 VS+ (power)

## OPA842IDBVTG4
designator U?
Wideband, Low Distortion, Unity Gain Stable, Voltage Feedback Operational Amplifier, 7 to 12 V, -40 to 85 degC, 5-pin SOT23 (DBV5), Green (RoHS & no Sb/Br); Manufacturer: Texas Instruments; PartNumber: OPA842IDBVTG4; 2nd Harmonic(dBc): 94; 3rd Harmonic(dBc): 93; @ MHz: 5; Acl, min stable gain(V/V): 1; BW @ Acl(MHz): 400; Diff Gain(%): 0.003; Diff Phase(deg): 0.008; Iib(Max)(nA): 37000; Io(Typ)(mA): 100; Iq per channel(Max)(mA): 22.5; Settling Time (0.1%)(Typ)(ns): 15; Sub Family: High Output Current Amplifier (>=50mA), High Speed Amplifier (>=50MHz); THD (Fc is 1 MHz)(Typ)(dB): -100; Vio(Max)(mV): 1.2; Vn at Flatband(Typ)(nV/rtHz): 2.7; Vs(Max)(V): 12; Vs(Min)(V): 7; DatasheetVersion: SBOS267D; PackageVersion: 4073253-4/K, 03/2006; PackageReference: DBV5; PackageDescription: 5-Pin Plastic Small Outline, Body 1.6 x 2.9 mm, Pitch 0.95 mm; Supplier 1: Digi-Key; Supplier Part Number 1: OPA842IDBVTG4-ND; Supplier 2: Mouser; Supplier Part Number 2: 595-OPA842IDBVTG4; Eco-Plan: Green (RoHS & no Sb/Br); Number of Channels: 1; Slew Rate(Typ)(V/us): 400; Mounting Technology: Surface Mount; Code_JEDEC: MO-178; ComponentLink1Description: Manufacturer URL; ComponentLink1URL: http://www.ti.com/; ComponentLink2Description: Datasheet; ComponentLink2URL: http://www.ti.com/general/docs/lit/getliterature.tsp?genericPartNumber=OPA842&fileType=pdf; ComponentLink3Description: Package Specification; ComponentLink3URL: http://www.ti.com/litv/pdf/mpds018i
footprint TI-DBV5_N (SOT23, 5-Leads, Body 2.9x1.6mm, Pitch 0.95mm, IPC Medium Density)
footprint TI-DBV5_L (SOT23, 5-Leads, Body 2.9x1.6mm, Pitch 0.95mm, IPC High Density)
footprint TI-DBV5_M (SOT23, 5-Leads, Body 2.9x1.6mm, Pitch 0.95mm, IPC Low Density)
pins: 1 OUT (out), 2 VS- (power), 3 IN+ (in), 4 IN- (in), 5 VS+ (power)

## OPA842IDG4
designator U?
Wideband, Low Distortion, Unity Gain Stable, Voltage Feedback Operational Amplifier, 7 to 12 V, -40 to 85 degC, 8-pin SOIC (D8), Green (RoHS & no Sb/Br); Manufacturer: Texas Instruments; PartNumber: OPA842IDG4; 2nd Harmonic(dBc): 94; 3rd Harmonic(dBc): 93; @ MHz: 5; Acl, min stable gain(V/V): 1; BW @ Acl(MHz): 400; Diff Gain(%): 0.003; Diff Phase(deg): 0.008; Iib(Max)(nA): 37000; Io(Typ)(mA): 100; Iq per channel(Max)(mA): 22.5; Settling Time (0.1%)(Typ)(ns): 15; Sub Family: High Output Current Amplifier (>=50mA), High Speed Amplifier (>=50MHz); THD (Fc is 1 MHz)(Typ)(dB): -100; Vio(Max)(mV): 1.2; Vn at Flatband(Typ)(nV/rtHz): 2.7; Vs(Max)(V): 12; Vs(Min)(V): 7; DatasheetVersion: SBOS267D; PackageVersion: 4040047-3/M, 06/2011; PackageReference: D8; PackageDescription: 8-Pin Plastic Small Outline, Body 4.9 x 3.9 mm, Pitch 1.27 mm; Supplier 1: Digi-Key; Supplier Part Number 1: OPA842IDG4-ND; Supplier 2: Mouser; Supplier Part Number 2: 595-OPA842IDG4; Eco-Plan: Green (RoHS & no Sb/Br); Number of Channels: 1; Slew Rate(Typ)(V/us): 400; Mounting Technology: Surface Mount; Code_JEDEC: MS-012; ComponentLink1Description: Manufacturer URL; ComponentLink1URL: http://www.ti.com/; ComponentLink2Description: Datasheet; ComponentLink2URL: http://www.ti.com/general/docs/lit/getliterature.tsp?genericPartNumber=OPA842&fileType=pdf; ComponentLink3Description: Package Specification; ComponentLink3URL: http://www.ti.com/litv/pdf/msoi002j
footprint TI-D8_N (SOIC, 8-Leads, Body 4.9x3.9mm, Pitch 1.27mm, IPC Medium Density)
footprint TI-D8_L (SOIC, 8-Leads, Body 4.9x3.9mm, Pitch 1.27mm, IPC High Density)
footprint TI-D8_M (SOIC, 8-Leads, Body 4.9x3.9mm, Pitch 1.27mm, IPC Low Density)
part A pins: 2 IN- (in), 3 IN+ (in), 4 VS- (power), 6 OUT (out), 7 VS+ (power)
part B pins: 1 NC, 5 NC, 8 NC

## OPA842IDR
designator U?
Wideband, Low Distortion, Unity Gain Stable, Voltage Feedback Operational Amplifier, 7 to 12 V, -40 to 85 degC, 8-pin SOIC (D8), Green (RoHS & no Sb/Br); Manufacturer: Texas Instruments; PartNumber: OPA842IDR; 2nd Harmonic(dBc): 94; 3rd Harmonic(dBc): 93; @ MHz: 5; Acl, min stable gain(V/V): 1; BW @ Acl(MHz): 400; Diff Gain(%): 0.003; Diff Phase(deg): 0.008; Iib(Max)(nA): 37000; Io(Typ)(mA): 100; Iq per channel(Max)(mA): 22.5; Settling Time (0.1%)(Typ)(ns): 15; Sub Family: High Output Current Amplifier (>=50mA), High Speed Amplifier (>=50MHz); THD (Fc is 1 MHz)(Typ)(dB): -100; Vio(Max)(mV): 1.2; Vn at Flatband(Typ)(nV/rtHz): 2.7; Vs(Max)(V): 12; Vs(Min)(V): 7; DatasheetVersion: SBOS267D; PackageVersion: 4040047-3/M, 06/2011; PackageReference: D8; PackageDescription: 8-Pin Plastic Small Outline, Body 4.9 x 3.9 mm, Pitch 1.27 mm; Supplier 1: Digi-Key; Supplier Part Number 1: OPA842IDR-ND; Supplier 2: Mouser; Supplier Part Number 2: 595-OPA842IDR; Eco-Plan: Green (RoHS & no Sb/Br); Number of Channels: 1; Slew Rate(Typ)(V/us): 400; Mounting Technology: Surface Mount; Code_JEDEC: MS-012; ComponentLink1Description: Manufacturer URL; ComponentLink1URL: http://www.ti.com/; ComponentLink2Description: Datasheet; ComponentLink2URL: http://www.ti.com/general/docs/lit/getliterature.tsp?genericPartNumber=OPA842&fileType=pdf; ComponentLink3Description: Package Specification; ComponentLink3URL: http://www.ti.com/litv/pdf/msoi002j
footprint TI-D8_N (SOIC, 8-Leads, Body 4.9x3.9mm, Pitch 1.27mm, IPC Medium Density)
footprint TI-D8_L (SOIC, 8-Leads, Body 4.9x3.9mm, Pitch 1.27mm, IPC High Density)
footprint TI-D8_M (SOIC, 8-Leads, Body 4.9x3.9mm, Pitch 1.27mm, IPC Low Density)
part A pins: 2 IN- (in), 3 IN+ (in), 4 VS- (power), 6 OUT (out), 7 VS+ (power)
part B pins: 1 NC, 5 NC, 8 NC

## OPA842IDRG4
designator U?
Wideband, Low Distortion, Unity Gain Stable, Voltage Feedback Operational Amplifier, 7 to 12 V, -40 to 85 degC, 8-pin SOIC (D8), Green (RoHS & no Sb/Br); Manufacturer: Texas Instruments; PartNumber: OPA842IDRG4; 2nd Harmonic(dBc): 94; 3rd Harmonic(dBc): 93; @ MHz: 5; Acl, min stable gain(V/V): 1; BW @ Acl(MHz): 350; Diff Gain(%): 0.003; Diff Phase(deg): 0.008; Iib(Max)(nA): 37000; Io(Typ)(mA): 100; Iq per channel(Max)(mA): 22.5; Settling Time (0.1%)(Typ)(ns): 15; Slew Rate(Typ)(V/us): 400; Sub Family: High Output Current Amplifier (>=50mA), High Speed Amplifier (>=50MHz); THD (Fc is 1 MHz)(Typ)(dB): -100; Vio(Max)(mV): 1.5; Vn at Flatband(Typ)(nV/rtHz): 3.1; Vs(Max)(V): 12; Vs(Min)(V): 7; DatasheetVersion: SBOS267D; PackageVersion: 4040047-3/M, 06/2011; PackageReference: D8; PackageDescription: 8-Pin Plastic Small Outline, Body 4.9 x 3.9 mm, Pitch 1.27 mm; Supplier 1: Digi-Key; Supplier Part Number 1: OPA842IDRG4-ND; Supplier 2: Mouser; Supplier Part Number 2: 595-OPA842IDRG4; Eco-Plan: Green (RoHS & no Sb/Br); Number of Channels: 1; Mounting Technology: Surface Mount; Code_JEDEC: MS-012; ComponentLink1Description: Manufacturer URL; ComponentLink1URL: http://www.ti.com/; ComponentLink2Description: Datasheet; ComponentLink2URL: http://www.ti.com/general/docs/lit/getliterature.tsp?genericPartNumber=OPA842&fileType=pdf; ComponentLink3Description: Package Specification; ComponentLink3URL: http://www.ti.com/litv/pdf/msoi002j
footprint TI-D8_N (SOIC, 8-Leads, Body 4.9x3.9mm, Pitch 1.27mm, IPC Medium Density)
footprint TI-D8_L (SOIC, 8-Leads, Body 4.9x3.9mm, Pitch 1.27mm, IPC High Density)
footprint TI-D8_M (SOIC, 8-Leads, Body 4.9x3.9mm, Pitch 1.27mm, IPC Low Density)
part A pins: 2 IN- (in), 3 IN+ (in), 4 VS- (power), 6 OUT (out), 7 VS+ (power)
part B pins: 1 NC, 5 NC, 8 NC

## OPA843ID
designator U?
Wideband, Low Distortion, Medium Gain, Voltage Feedback Operational Amplifier, 8 to 12 V, -40 to 85 degC, 8-pin SOIC (D8), Green (RoHS & no Sb/Br); Manufacturer: Texas Instruments; PartNumber: OPA843ID; 2nd Harmonic(dBc): 96; 3rd Harmonic(dBc): 110; @ MHz: 5; Acl, min stable gain(V/V): 3; BW @ Acl(MHz): 500; Diff Gain(%): 0.001; Diff Phase(deg): 0.012; Iib(Max)(nA): 37000; Io(Typ)(mA): 100; Iq per channel(Max)(mA): 22.5; Number of Channels: 1; Settling Time (0.1%)(Typ)(ns): 7.5; Slew Rate(Typ)(V/us): 1000; Sub Family: High Output Current Amplifier (>=50mA), High Speed Amplifier (>=50MHz); THD (Fc is 1 MHz)(Typ)(dB): -95; Vio(Max)(mV): 1.2; Vn at Flatband(Typ)(nV/rtHz): 2; Vs(Max)(V): 12; Vs(Min)(V): 8; DatasheetVersion: SBOS268C; PackageVersion: 4040047-3/M, 06/2011; PackageReference: D8; PackageDescription: 8-Pin Plastic Small Outline, Body 4.9 x 3.9 mm, Pitch 1.27 mm; Supplier 1: Digi-Key; Supplier Part Number 1: 296-14177-5-ND; Supplier 2: Farnell; Supplier Part Number 2: 8434301; Supplier 3: Newark; Supplier Part Number 3: 21H3998; Supplier 4: Mouser; Supplier Part Number 4: 595-OPA843ID; Eco-Plan: Green (RoHS & no Sb/Br); Mounting Technology: Surface Mount; Code_JEDEC: MS-012; ComponentLink1Description: Manufacturer URL; ComponentLink1URL: http://www.ti.com/; ComponentLink2Description: Datasheet; ComponentLink2URL: http://www.ti.com/general/docs/lit/getliterature.tsp?genericPartNumber=OPA843&fileType=pdf; ComponentLink3Description: Package Specification; ComponentLink3URL: http://www.ti.com/litv/pdf/msoi002j
footprint TI-D8_N (SOIC, 8-Leads, Body 4.9x3.9mm, Pitch 1.27mm, IPC Medium Density)
footprint TI-D8_L (SOIC, 8-Leads, Body 4.9x3.9mm, Pitch 1.27mm, IPC High Density)
footprint TI-D8_M (SOIC, 8-Leads, Body 4.9x3.9mm, Pitch 1.27mm, IPC Low Density)
part A pins: 2 IN- (in), 3 IN+ (in), 4 VS- (power), 6 OUT (out), 7 VS+ (power)
part B pins: 1 NC, 5 NC, 8 NC

## OPA843IDBVR
designator U?
Wideband, Low Distortion, Medium Gain, Voltage Feedback Operational Amplifier, 8 to 12 V, -40 to 85 degC, 5-pin SOT23 (DBV5), Green (RoHS & no Sb/Br); Manufacturer: Texas Instruments; PartNumber: OPA843IDBVR; 2nd Harmonic(dBc): 96; 3rd Harmonic(dBc): 110; @ MHz: 5; Acl, min stable gain(V/V): 3; BW @ Acl(MHz): 500; Diff Gain(%): 0.001; Diff Phase(deg): 0.012; Iib(Max)(nA): 37000; Io(Typ)(mA): 100; Iq per channel(Max)(mA): 22.5; Number of Channels: 1; Settling Time (0.1%)(Typ)(ns): 7.5; Slew Rate(Typ)(V/us): 1000; Sub Family: High Output Current Amplifier (>=50mA), High Speed Amplifier (>=50MHz); THD (Fc is 1 MHz)(Typ)(dB): -95; Vio(Max)(mV): 1.2; Vn at Flatband(Typ)(nV/rtHz): 2; Vs(Max)(V): 12; Vs(Min)(V): 8; DatasheetVersion: SBOS268C; PackageVersion: 4073253-4/K, 03/2006; PackageReference: DBV5; PackageDescription: 5-Pin Plastic Small Outline, Body 1.6 x 2.9 mm, Pitch 0.95 mm; Supplier 1: Digi-Key; Supplier Part Number 1: OPA843IDBVR-ND; Supplier 2: Mouser; Supplier Part Number 2: 595-OPA843IDBVR; Eco-Plan: Green (RoHS & no Sb/Br); Mounting Technology: Surface Mount; Code_JEDEC: MO-178; ComponentLink1Description: Manufacturer URL; ComponentLink1URL: http://www.ti.com/; ComponentLink2Description: Datasheet; ComponentLink2URL: http://www.ti.com/general/docs/lit/getliterature.tsp?genericPartNumber=OPA843&fileType=pdf; ComponentLink3Description: Package Specification; ComponentLink3URL: http://www.ti.com/litv/pdf/mpds018i
footprint TI-DBV5_N (SOT23, 5-Leads, Body 2.9x1.6mm, Pitch 0.95mm, IPC Medium Density)
footprint TI-DBV5_L (SOT23, 5-Leads, Body 2.9x1.6mm, Pitch 0.95mm, IPC High Density)
footprint TI-DBV5_M (SOT23, 5-Leads, Body 2.9x1.6mm, Pitch 0.95mm, IPC Low Density)
pins: 1 OUT (out), 2 VS- (power), 3 IN+ (in), 4 IN- (in), 5 VS+ (power)

## OPA843IDBVRG4
designator U?
Wideband, Low Distortion, Medium Gain, Voltage Feedback Operational Amplifier, 8 to 12 V, -40 to 85 degC, 5-pin SOT23 (DBV5), Green (RoHS & no Sb/Br); Manufacturer: Texas Instruments; PartNumber: OPA843IDBVRG4; 2nd Harmonic(dBc): 96; 3rd Harmonic(dBc): 110; @ MHz: 5; Acl, min stable gain(V/V): 3; BW @ Acl(MHz): 500; Diff Gain(%): 0.001; Diff Phase(deg): 0.012; Iib(Max)(nA): 37000; Io(Typ)(mA): 100; Iq per channel(Max)(mA): 22.5; Number of Channels: 1; Settling Time (0.1%)(Typ)(ns): 7.5; Slew Rate(Typ)(V/us): 1000; Sub Family: High Output Current Amplifier (>=50mA), High Speed Amplifier (>=50MHz); THD (Fc is 1 MHz)(Typ)(dB): -95; Vio(Max)(mV): 1.2; Vn at Flatband(Typ)(nV/rtHz): 2; Vs(Max)(V): 12; Vs(Min)(V): 8; DatasheetVersion: SBOS268C; PackageVersion: 4073253-4/K, 03/2006; PackageReference: DBV5; PackageDescription: 5-Pin Plastic Small Outline, Body 1.6 x 2.9 mm, Pitch 0.95 mm; Supplier 1: Digi-Key; Supplier Part Number 1: OPA843IDBVRG4-ND; Supplier 2: Mouser; Supplier Part Number 2: 595-OPA843IDBVRG4; Eco-Plan: Green (RoHS & no Sb/Br); Mounting Technology: Surface Mount; Code_JEDEC: MO-178; ComponentLink1Description: Manufacturer URL; ComponentLink1URL: http://www.ti.com/; ComponentLink2Description: Datasheet; ComponentLink2URL: http://www.ti.com/general/docs/lit/getliterature.tsp?genericPartNumber=OPA843&fileType=pdf; ComponentLink3Description: Package Specification; ComponentLink3URL: http://www.ti.com/litv/pdf/mpds018i
footprint TI-DBV5_N (SOT23, 5-Leads, Body 2.9x1.6mm, Pitch 0.95mm, IPC Medium Density)
footprint TI-DBV5_L (SOT23, 5-Leads, Body 2.9x1.6mm, Pitch 0.95mm, IPC High Density)
footprint TI-DBV5_M (SOT23, 5-Leads, Body 2.9x1.6mm, Pitch 0.95mm, IPC Low Density)
pins: 1 OUT (out), 2 VS- (power), 3 IN+ (in), 4 IN- (in), 5 VS+ (power)

## OPA843IDBVT
designator U?
Wideband, Low Distortion, Medium Gain, Voltage Feedback Operational Amplifier, 8 to 12 V, -40 to 85 degC, 5-pin SOT23 (DBV5), Green (RoHS & no Sb/Br); Manufacturer: Texas Instruments; PartNumber: OPA843IDBVT; 2nd Harmonic(dBc): 96; 3rd Harmonic(dBc): 110; @ MHz: 5; Acl, min stable gain(V/V): 3; BW @ Acl(MHz): 500; Diff Gain(%): 0.001; Diff Phase(deg): 0.012; Iib(Max)(nA): 37000; Io(Typ)(mA): 100; Iq per channel(Max)(mA): 22.5; Number of Channels: 1; Settling Time (0.1%)(Typ)(ns): 7.5; Slew Rate(Typ)(V/us): 1000; Sub Family: High Output Current Amplifier (>=50mA), High Speed Amplifier (>=50MHz); THD (Fc is 1 MHz)(Typ)(dB): -95; Vio(Max)(mV): 1.2; Vn at Flatband(Typ)(nV/rtHz): 2; Vs(Max)(V): 12; Vs(Min)(V): 8; DatasheetVersion: SBOS268C; PackageVersion: 4073253-4/K, 03/2006; PackageReference: DBV5; PackageDescription: 5-Pin Plastic Small Outline, Body 1.6 x 2.9 mm, Pitch 0.95 mm; Supplier 1: Digi-Key; Supplier Part Number 1: 296-14178-2-ND; Supplier 2: Digi-Key; Supplier Part Number 2: 296-14178-1-ND; Supplier 3: Digi-Key; Supplier Part Number 3: 296-14178-6-ND; Supplier 4: Newark; Supplier Part Number 4: 21H4000; Supplier 5: Mouser; Supplier Part Number 5: 595-OPA843IDBVT; Eco-Plan: Green (RoHS & no Sb/Br); Mounting Technology: Surface Mount; Code_JEDEC: MO-178; ComponentLink1Description: Manufacturer URL; ComponentLink1URL: http://www.ti.com/; ComponentLink2Description: Datasheet; ComponentLink2URL: http://www.ti.com/general/docs/lit/getliterature.tsp?genericPartNumber=OPA843&fileType=pdf; ComponentLink3Description: Package Specification; ComponentLink3URL: http://www.ti.com/litv/pdf/mpds018i
footprint TI-DBV5_N (SOT23, 5-Leads, Body 2.9x1.6mm, Pitch 0.95mm, IPC Medium Density)
footprint TI-DBV5_L (SOT23, 5-Leads, Body 2.9x1.6mm, Pitch 0.95mm, IPC High Density)
footprint TI-DBV5_M (SOT23, 5-Leads, Body 2.9x1.6mm, Pitch 0.95mm, IPC Low Density)
pins: 1 OUT (out), 2 VS- (power), 3 IN+ (in), 4 IN- (in), 5 VS+ (power)

## OPA843IDBVTG4
designator U?
Wideband, Low Distortion, Medium Gain, Voltage Feedback Operational Amplifier, 8 to 12 V, -40 to 85 degC, 5-pin SOT23 (DBV5), Green (RoHS & no Sb/Br); Manufacturer: Texas Instruments; PartNumber: OPA843IDBVTG4; 2nd Harmonic(dBc): 96; 3rd Harmonic(dBc): 110; @ MHz: 5; Acl, min stable gain(V/V): 3; BW @ Acl(MHz): 500; Diff Gain(%): 0.001; Diff Phase(deg): 0.012; Iib(Max)(nA): 37000; Io(Typ)(mA): 100; Iq per channel(Max)(mA): 22.5; Number of Channels: 1; Settling Time (0.1%)(Typ)(ns): 7.5; Slew Rate(Typ)(V/us): 1000; Sub Family: High Output Current Amplifier (>=50mA), High Speed Amplifier (>=50MHz); THD (Fc is 1 MHz)(Typ)(dB): -95; Vio(Max)(mV): 1.2; Vn at Flatband(Typ)(nV/rtHz): 2; Vs(Max)(V): 12; Vs(Min)(V): 8; DatasheetVersion: SBOS268C; PackageVersion: 4073253-4/K, 03/2006; PackageReference: DBV5; PackageDescription: 5-Pin Plastic Small Outline, Body 1.6 x 2.9 mm, Pitch 0.95 mm; Supplier 1: Digi-Key; Supplier Part Number 1: OPA843IDBVTG4-ND; Supplier 2: Newark; Supplier Part Number 2: 54K0193; Supplier 3: Mouser; Supplier Part Number 3: 595-OPA843IDBVTG4; Eco-Plan: Green (RoHS & no Sb/Br); Mounting Technology: Surface Mount; Code_JEDEC: MO-178; ComponentLink1Description: Manufacturer URL; ComponentLink1URL: http://www.ti.com/; ComponentLink2Description: Datasheet; ComponentLink2URL: http://www.ti.com/general/docs/lit/getliterature.tsp?genericPartNumber=OPA843&fileType=pdf; ComponentLink3Description: Package Specification; ComponentLink3URL: http://www.ti.com/litv/pdf/mpds018i
footprint TI-DBV5_N (SOT23, 5-Leads, Body 2.9x1.6mm, Pitch 0.95mm, IPC Medium Density)
footprint TI-DBV5_L (SOT23, 5-Leads, Body 2.9x1.6mm, Pitch 0.95mm, IPC High Density)
footprint TI-DBV5_M (SOT23, 5-Leads, Body 2.9x1.6mm, Pitch 0.95mm, IPC Low Density)
pins: 1 OUT (out), 2 VS- (power), 3 IN+ (in), 4 IN- (in), 5 VS+ (power)

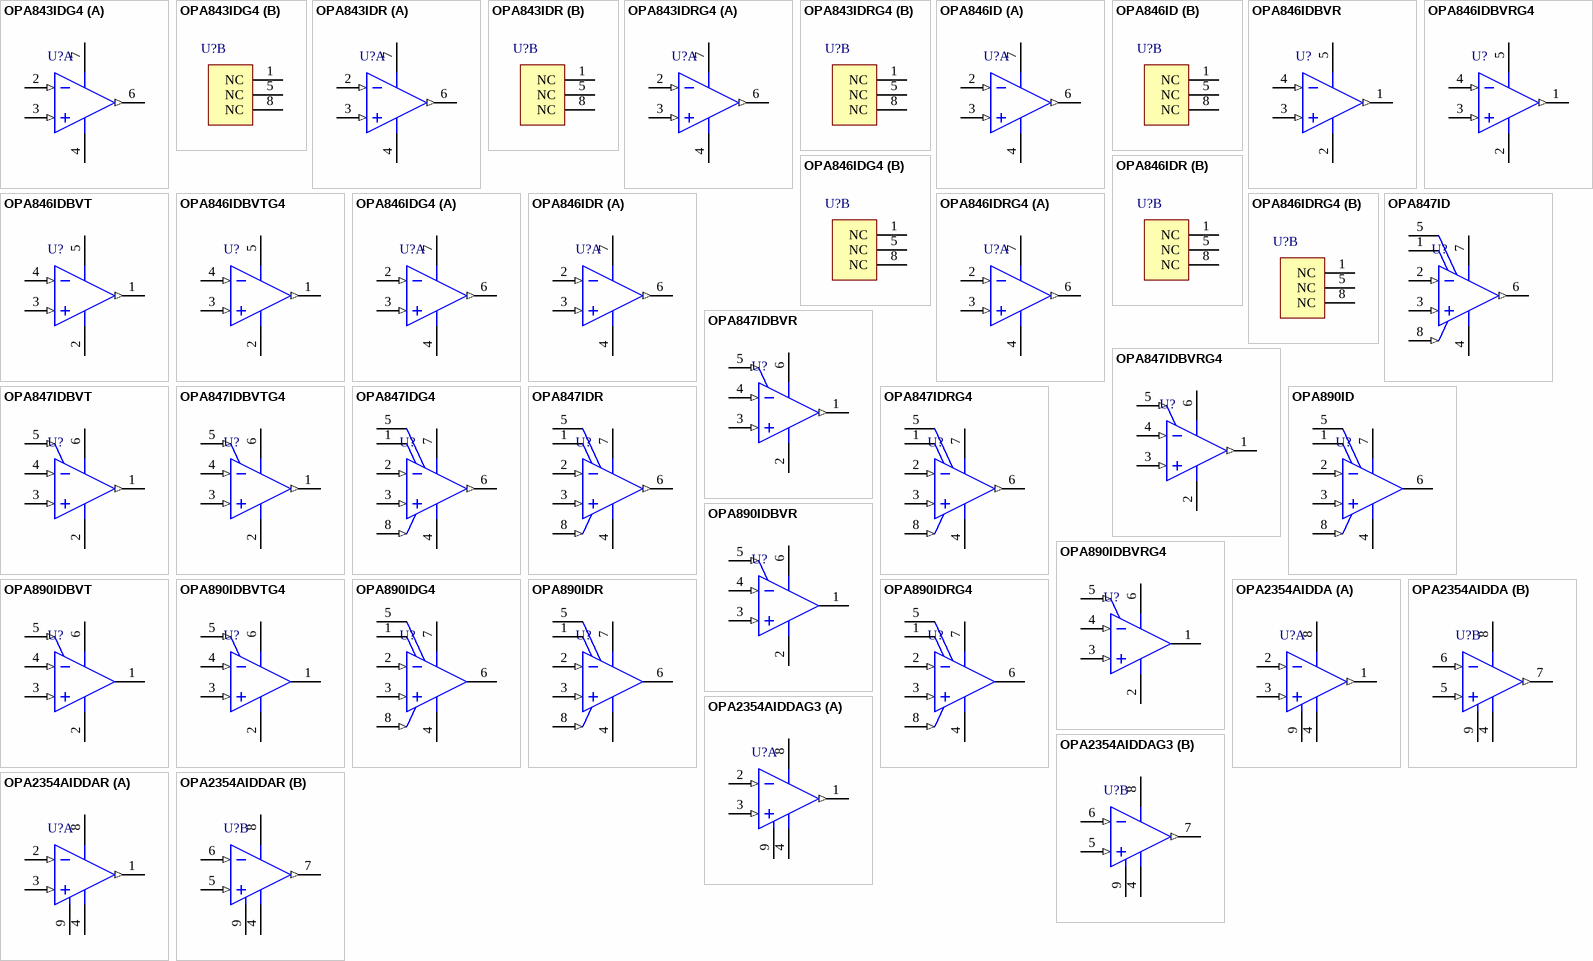
[diagram p6: symbols OPA843IDG4 to OPA2354AIDDAR]

## OPA843IDG4
designator U?
Wideband, Low Distortion, Medium Gain, Voltage Feedback Operational Amplifier, 8 to 12 V, -40 to 85 degC, 8-pin SOIC (D8), Green (RoHS & no Sb/Br); Manufacturer: Texas Instruments; PartNumber: OPA843IDG4; 2nd Harmonic(dBc): 96; 3rd Harmonic(dBc): 110; @ MHz: 5; Acl, min stable gain(V/V): 3; BW @ Acl(MHz): 500; Diff Gain(%): 0.001; Diff Phase(deg): 0.012; Iib(Max)(nA): 37000; Io(Typ)(mA): 100; Iq per channel(Max)(mA): 22.5; Number of Channels: 1; Settling Time (0.1%)(Typ)(ns): 7.5; Slew Rate(Typ)(V/us): 1000; Sub Family: High Output Current Amplifier (>=50mA), High Speed Amplifier (>=50MHz); THD (Fc is 1 MHz)(Typ)(dB): -95; Vio(Max)(mV): 1.2; Vn at Flatband(Typ)(nV/rtHz): 2; Vs(Max)(V): 12; Vs(Min)(V): 8; DatasheetVersion: SBOS268C; PackageVersion: 4040047-3/M, 06/2011; PackageReference: D8; PackageDescription: 8-Pin Plastic Small Outline, Body 4.9 x 3.9 mm, Pitch 1.27 mm; Supplier 1: Digi-Key; Supplier Part Number 1: OPA843IDG4-ND; Supplier 2: Newark; Supplier Part Number 2: 70K4122; Supplier 3: Mouser; Supplier Part Number 3: 595-OPA843IDG4; Eco-Plan: Green (RoHS & no Sb/Br); Mounting Technology: Surface Mount; Code_JEDEC: MS-012; ComponentLink1Description: Manufacturer URL; ComponentLink1URL: http://www.ti.com/; ComponentLink2Description: Datasheet; ComponentLink2URL: http://www.ti.com/general/docs/lit/getliterature.tsp?genericPartNumber=OPA843&fileType=pdf; ComponentLink3Description: Package Specification; ComponentLink3URL: http://www.ti.com/litv/pdf/msoi002j
footprint TI-D8_N (SOIC, 8-Leads, Body 4.9x3.9mm, Pitch 1.27mm, IPC Medium Density)
footprint TI-D8_L (SOIC, 8-Leads, Body 4.9x3.9mm, Pitch 1.27mm, IPC High Density)
footprint TI-D8_M (SOIC, 8-Leads, Body 4.9x3.9mm, Pitch 1.27mm, IPC Low Density)
part A pins: 2 IN- (in), 3 IN+ (in), 4 VS- (power), 6 OUT (out), 7 VS+ (power)
part B pins: 1 NC, 5 NC, 8 NC

## OPA843IDR
designator U?
Wideband, Low Distortion, Medium Gain, Voltage Feedback Operational Amplifier, 8 to 12 V, -40 to 85 degC, 8-pin SOIC (D8), Green (RoHS & no Sb/Br); Manufacturer: Texas Instruments; PartNumber: OPA843IDR; 2nd Harmonic(dBc): 96; 3rd Harmonic(dBc): 110; @ MHz: 5; Acl, min stable gain(V/V): 3; BW @ Acl(MHz): 500; Diff Gain(%): 0.001; Diff Phase(deg): 0.012; Iib(Max)(nA): 37000; Io(Typ)(mA): 100; Iq per channel(Max)(mA): 22.5; Number of Channels: 1; Settling Time (0.1%)(Typ)(ns): 7.5; Slew Rate(Typ)(V/us): 1000; Sub Family: High Output Current Amplifier (>=50mA), High Speed Amplifier (>=50MHz); THD (Fc is 1 MHz)(Typ)(dB): -95; Vio(Max)(mV): 1.2; Vn at Flatband(Typ)(nV/rtHz): 2; Vs(Max)(V): 12; Vs(Min)(V): 8; DatasheetVersion: SBOS268C; PackageVersion: 4040047-3/M, 06/2011; PackageReference: D8; PackageDescription: 8-Pin Plastic Small Outline, Body 4.9 x 3.9 mm, Pitch 1.27 mm; Supplier 1: Digi-Key; Supplier Part Number 1: OPA843IDR-ND; Supplier 2: Newark; Supplier Part Number 2: 21H4001; Supplier 3: Mouser; Supplier Part Number 3: 595-OPA843IDR; Eco-Plan: Green (RoHS & no Sb/Br); Mounting Technology: Surface Mount; Code_JEDEC: MS-012; ComponentLink1Description: Manufacturer URL; ComponentLink1URL: http://www.ti.com/; ComponentLink2Description: Datasheet; ComponentLink2URL: http://www.ti.com/general/docs/lit/getliterature.tsp?genericPartNumber=OPA843&fileType=pdf; ComponentLink3Description: Package Specification; ComponentLink3URL: http://www.ti.com/litv/pdf/msoi002j
footprint TI-D8_N (SOIC, 8-Leads, Body 4.9x3.9mm, Pitch 1.27mm, IPC Medium Density)
footprint TI-D8_L (SOIC, 8-Leads, Body 4.9x3.9mm, Pitch 1.27mm, IPC High Density)
footprint TI-D8_M (SOIC, 8-Leads, Body 4.9x3.9mm, Pitch 1.27mm, IPC Low Density)
part A pins: 2 IN- (in), 3 IN+ (in), 4 VS- (power), 6 OUT (out), 7 VS+ (power)
part B pins: 1 NC, 5 NC, 8 NC